# Altium integrated library NSC Switcher.IntLib: 2027 symbols (part 35 of 54)
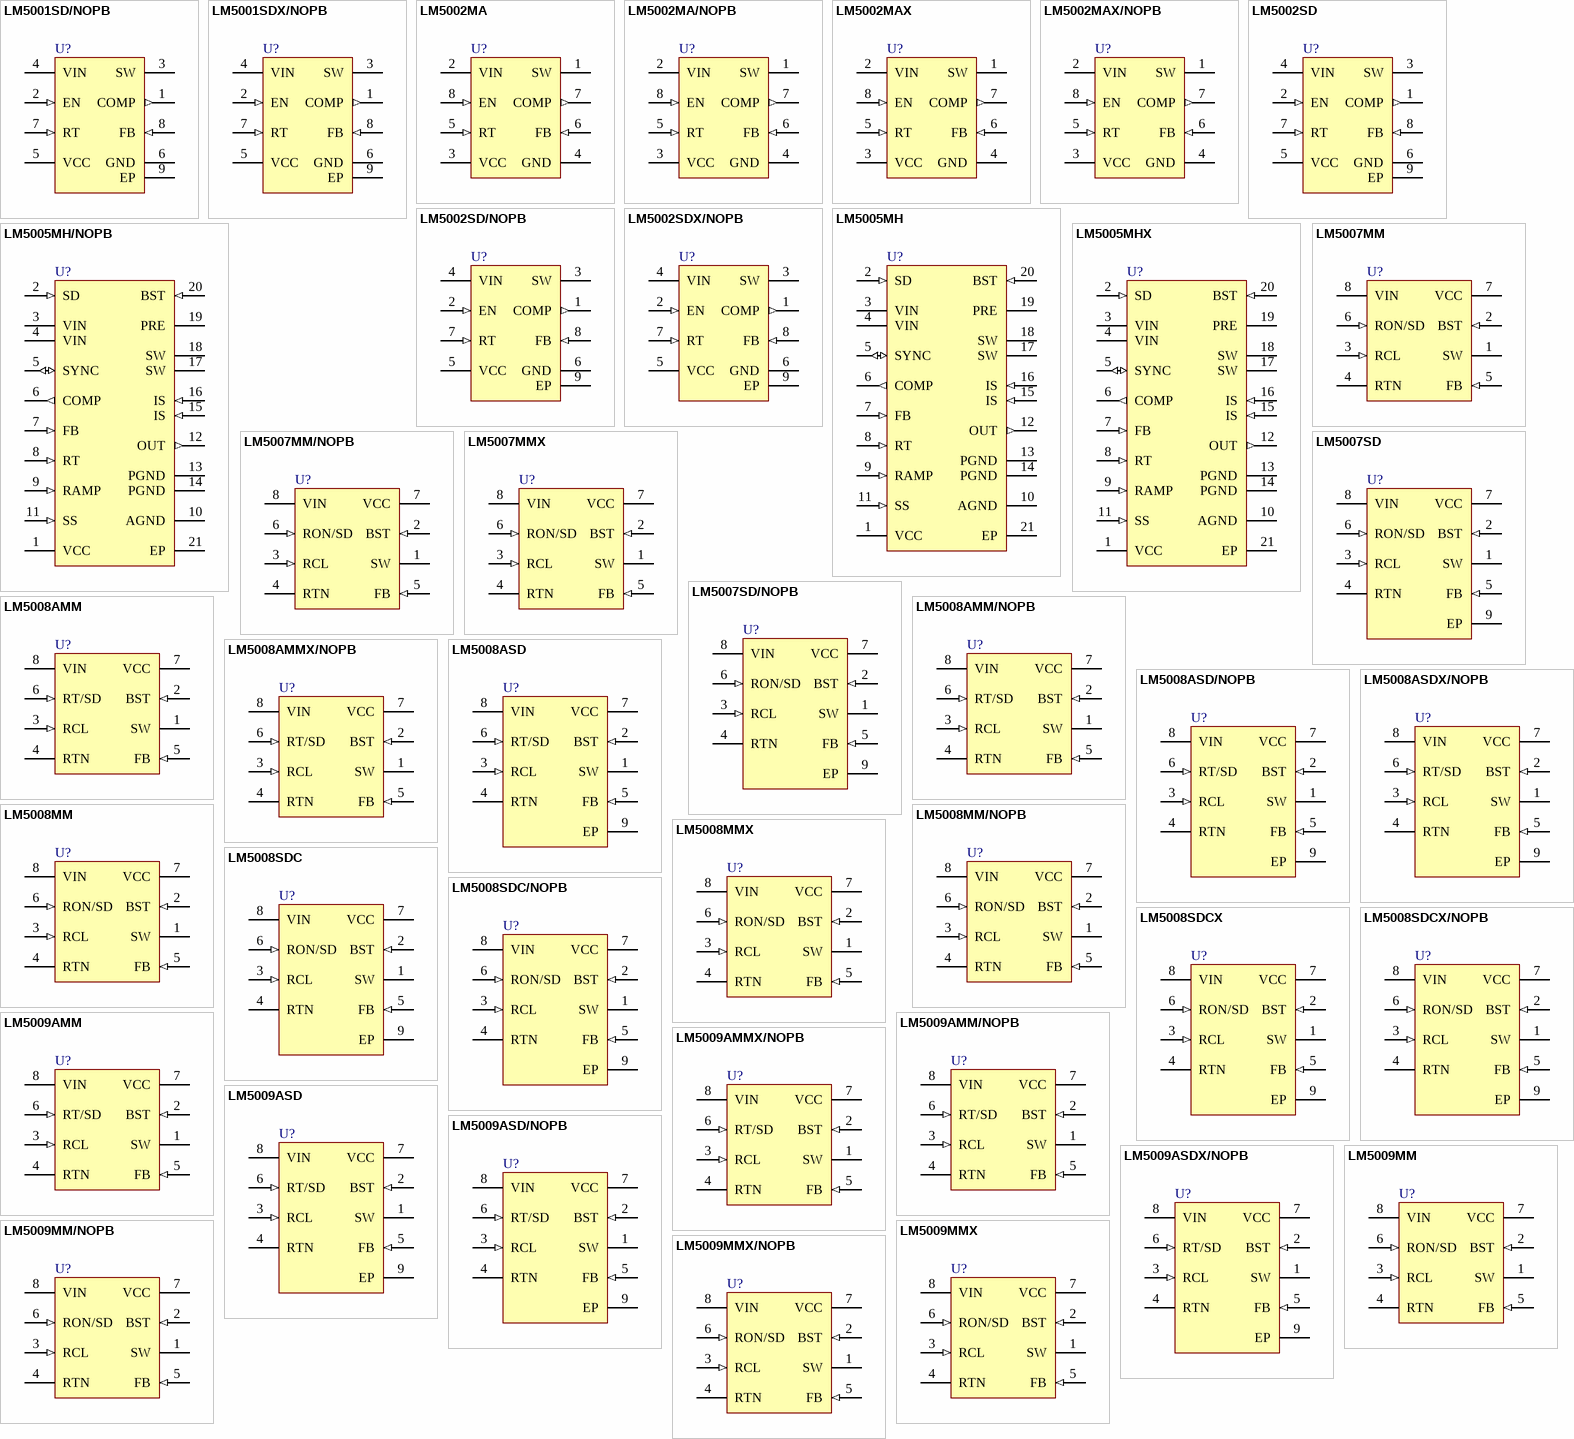
[diagram p97: symbols LM5001SD/NOPB to LM5009MMX/NOPB]

## LM5009ASD/NOPB
designator U?
100V, 150 mA Constant On-Time Buck Switching Regulator, 8-pin LLP, Pb-Free; PartNumber: LM5009ASD/NOPB; Manufacturer: National Semiconductor; PackageTopMarking: NS*UZXYTT*5009ASD; PowerWise: Y; CompType: Switcher; Published: 1-Mar-2010; DatasheetVersion: Jun-2009; PackageVersion: revA, Mar-2006; PackageReference: SDC08B; Publisher: Altium Limited; PackageDescription: LLP, Dual, 4 x 4 x 0.8mm Body, 8 Lead, 0.8mm Pitch, No Pullback, 1.98 x 3mm Exposed Pad; Supplier 1: Digi-Key; Supplier Part Number 1: LM5009ASDTR-ND; Supplier 2: Digi-Key; Supplier Part Number 2: LM5009ASDCT-ND; Supplier 3: Digi-Key; Supplier Part Number 3: LM5009ASDDKR-ND; Supplier 4: Farnell; Supplier Part Number 4: 1735801; RoHS: Y; PinCount: 8; ComponentLink1Description: LM5009A Datasheet; ComponentLink1URL: http://www.national.com/ds/LM/LM5009A.pdf; ComponentLink2Description: LM5009A Web Page; ComponentLink2URL: http://www.national.com/pf/LM/LM5009A.html; ComponentLink3Description: SDC08B Package Page; ComponentLink3URL: http://www.national.com/packaging/folders/sdc08b.html
footprint SDC08B (SON, 8-Leads, Body 4x4mm, Pitch 0.8mm, NSC Recommended)
pins: 1 SW (power), 2 BST (in), 3 RCL (in), 4 RTN (power), 5 FB (in), 6 RT/SD (in), 7 VCC (power), 8 VIN (power), 9 EP (power)

## LM5009ASDX/NOPB
designator U?
100V, 150 mA Constant On-Time Buck Switching Regulator, 8-pin LLP, Pb-Free; PartNumber: LM5009ASDX/NOPB; Manufacturer: National Semiconductor; PackageTopMarking: NS*UZXYTT*5009ASD; PowerWise: Y; CompType: Switcher; Published: 1-Mar-2010; DatasheetVersion: Jun-2009; PackageVersion: revA, Mar-2006; PackageReference: SDC08B; Publisher: Altium Limited; PackageDescription: LLP, Dual, 4 x 4 x 0.8mm Body, 8 Lead, 0.8mm Pitch, No Pullback, 1.98 x 3mm Exposed Pad; Supplier 1: Digi-Key; Supplier Part Number 1: LM5009ASDX-ND; RoHS: Y; PinCount: 8; ComponentLink1Description: LM5009A Datasheet; ComponentLink1URL: http://www.national.com/ds/LM/LM5009A.pdf; ComponentLink2Description: LM5009A Web Page; ComponentLink2URL: http://www.national.com/pf/LM/LM5009A.html; ComponentLink3Description: SDC08B Package Page; ComponentLink3URL: http://www.national.com/packaging/folders/sdc08b.html
footprint SDC08B (SON, 8-Leads, Body 4x4mm, Pitch 0.8mm, NSC Recommended)
pins: 1 SW (power), 2 BST (in), 3 RCL (in), 4 RTN (power), 5 FB (in), 6 RT/SD (in), 7 VCC (power), 8 VIN (power), 9 EP (power)

## LM5009MM
designator U?
150 mA, 100V Step-Down Switching Regulator, 8-pin MSOP; PartNumber: LM5009MM; Manufacturer: National Semiconductor; PackageTopMarking: ZXTT*SLLB; PowerWise: Y; CompType: Switcher; Published: 1-Mar-2010; DatasheetVersion: Feb-2008; PackageVersion: revF, Apr-2008; PackageReference: MUA08A; Publisher: Altium Limited; PackageDescription: MINI SOIC, .118 x .118 x .034in, 8 Lead, .0256in Pitch; Supplier 1: Farnell; Supplier Part Number 1: 1312791; RoHS: N; PinCount: 8; Code_JEDEC: MO-187-AA; ComponentLink1Description: LM5009 Datasheet; ComponentLink1URL: http://www.national.com/ds/LM/LM5009.pdf; ComponentLink2Description: LM5009 Web Page; ComponentLink2URL: http://www.national.com/pf/LM/LM5009.html; ComponentLink3Description: MUA08A Package Page; ComponentLink3URL: http://www.national.com/packaging/folders/mua08a.html
footprint MUA08A_N (TSOP, 8-Leads, Body 3x3mm, Pitch 0.65mm, IPC Medium Density)
footprint MUA08A_L (TSOP, 8-Leads, Body 3x3mm, Pitch 0.65mm, IPC High Density)
footprint MUA08A_M (TSOP, 8-Leads, Body 3x3mm, Pitch 0.65mm, IPC Low Density)
pins: 1 SW (power), 2 BST (in), 3 RCL (in), 4 RTN (power), 5 FB (in), 6 RON/SD (in), 7 VCC (power), 8 VIN (power)

## LM5009MM/NOPB
designator U?
150 mA, 100V Step-Down Switching Regulator, 8-pin MSOP, Pb-Free; PartNumber: LM5009MM/NOPB; Manufacturer: National Semiconductor; PackageTopMarking: ZXTT*SLLB; PowerWise: Y; CompType: Switcher; Published: 1-Mar-2010; DatasheetVersion: Feb-2008; PackageVersion: revF, Apr-2008; PackageReference: MUA08A; Publisher: Altium Limited; PackageDescription: MINI SOIC, .118 x .118 x .034in, 8 Lead, .0256in Pitch; Supplier 1: Digi-Key; Supplier Part Number 1: LM5009MMTR-ND; Supplier 2: Digi-Key; Supplier Part Number 2: LM5009MMCT-ND; Supplier 3: Digi-Key; Supplier Part Number 3: LM5009MMDKR-ND; Supplier 4: Farnell; Supplier Part Number 4: 1559831; RoHS: Y; PinCount: 8; Code_JEDEC: MO-187-AA; ComponentLink1Description: LM5009 Datasheet; ComponentLink1URL: http://www.national.com/ds/LM/LM5009.pdf; ComponentLink2Description: LM5009 Web Page; ComponentLink2URL: http://www.national.com/pf/LM/LM5009.html; ComponentLink3Description: MUA08A Package Page; ComponentLink3URL: http://www.national.com/packaging/folders/mua08a.html
footprint MUA08A_N (TSOP, 8-Leads, Body 3x3mm, Pitch 0.65mm, IPC Medium Density)
footprint MUA08A_L (TSOP, 8-Leads, Body 3x3mm, Pitch 0.65mm, IPC High Density)
footprint MUA08A_M (TSOP, 8-Leads, Body 3x3mm, Pitch 0.65mm, IPC Low Density)
pins: 1 SW (power), 2 BST (in), 3 RCL (in), 4 RTN (power), 5 FB (in), 6 RON/SD (in), 7 VCC (power), 8 VIN (power)

## LM5009MMX
designator U?
150 mA, 100V Step-Down Switching Regulator, 8-pin MSOP; PartNumber: LM5009MMX; Manufacturer: National Semiconductor; PackageTopMarking: ZXTT*SLLB; PowerWise: Y; CompType: Switcher; Published: 1-Mar-2010; DatasheetVersion: Feb-2008; PackageVersion: revF, Apr-2008; PackageReference: MUA08A; Publisher: Altium Limited; PackageDescription: MINI SOIC, .118 x .118 x .034in, 8 Lead, .0256in Pitch; RoHS: N; PinCount: 8; Code_JEDEC: MO-187-AA; ComponentLink1Description: LM5009 Datasheet; ComponentLink1URL: http://www.national.com/ds/LM/LM5009.pdf; ComponentLink2Description: LM5009 Web Page; ComponentLink2URL: http://www.national.com/pf/LM/LM5009.html; ComponentLink3Description: MUA08A Package Page; ComponentLink3URL: http://www.national.com/packaging/folders/mua08a.html
footprint MUA08A_N (TSOP, 8-Leads, Body 3x3mm, Pitch 0.65mm, IPC Medium Density)
footprint MUA08A_L (TSOP, 8-Leads, Body 3x3mm, Pitch 0.65mm, IPC High Density)
footprint MUA08A_M (TSOP, 8-Leads, Body 3x3mm, Pitch 0.65mm, IPC Low Density)
pins: 1 SW (power), 2 BST (in), 3 RCL (in), 4 RTN (power), 5 FB (in), 6 RON/SD (in), 7 VCC (power), 8 VIN (power)

## LM5009MMX/NOPB
designator U?
150 mA, 100V Step-Down Switching Regulator, 8-pin MSOP, Pb-Free; PartNumber: LM5009MMX/NOPB; Manufacturer: National Semiconductor; PackageTopMarking: ZXTT*SLLB; PowerWise: Y; CompType: Switcher; Published: 1-Mar-2010; DatasheetVersion: Feb-2008; PackageVersion: revF, Apr-2008; PackageReference: MUA08A; Publisher: Altium Limited; PackageDescription: MINI SOIC, .118 x .118 x .034in, 8 Lead, .0256in Pitch; Supplier 1: Digi-Key; Supplier Part Number 1: LM5009MMX-ND; RoHS: Y; PinCount: 8; Code_JEDEC: MO-187-AA; ComponentLink1Description: LM5009 Datasheet; ComponentLink1URL: http://www.national.com/ds/LM/LM5009.pdf; ComponentLink2Description: LM5009 Web Page; ComponentLink2URL: http://www.national.com/pf/LM/LM5009.html; ComponentLink3Description: MUA08A Package Page; ComponentLink3URL: http://www.national.com/packaging/folders/mua08a.html
footprint MUA08A_N (TSOP, 8-Leads, Body 3x3mm, Pitch 0.65mm, IPC Medium Density)
footprint MUA08A_L (TSOP, 8-Leads, Body 3x3mm, Pitch 0.65mm, IPC High Density)
footprint MUA08A_M (TSOP, 8-Leads, Body 3x3mm, Pitch 0.65mm, IPC Low Density)
pins: 1 SW (power), 2 BST (in), 3 RCL (in), 4 RTN (power), 5 FB (in), 6 RON/SD (in), 7 VCC (power), 8 VIN (power)

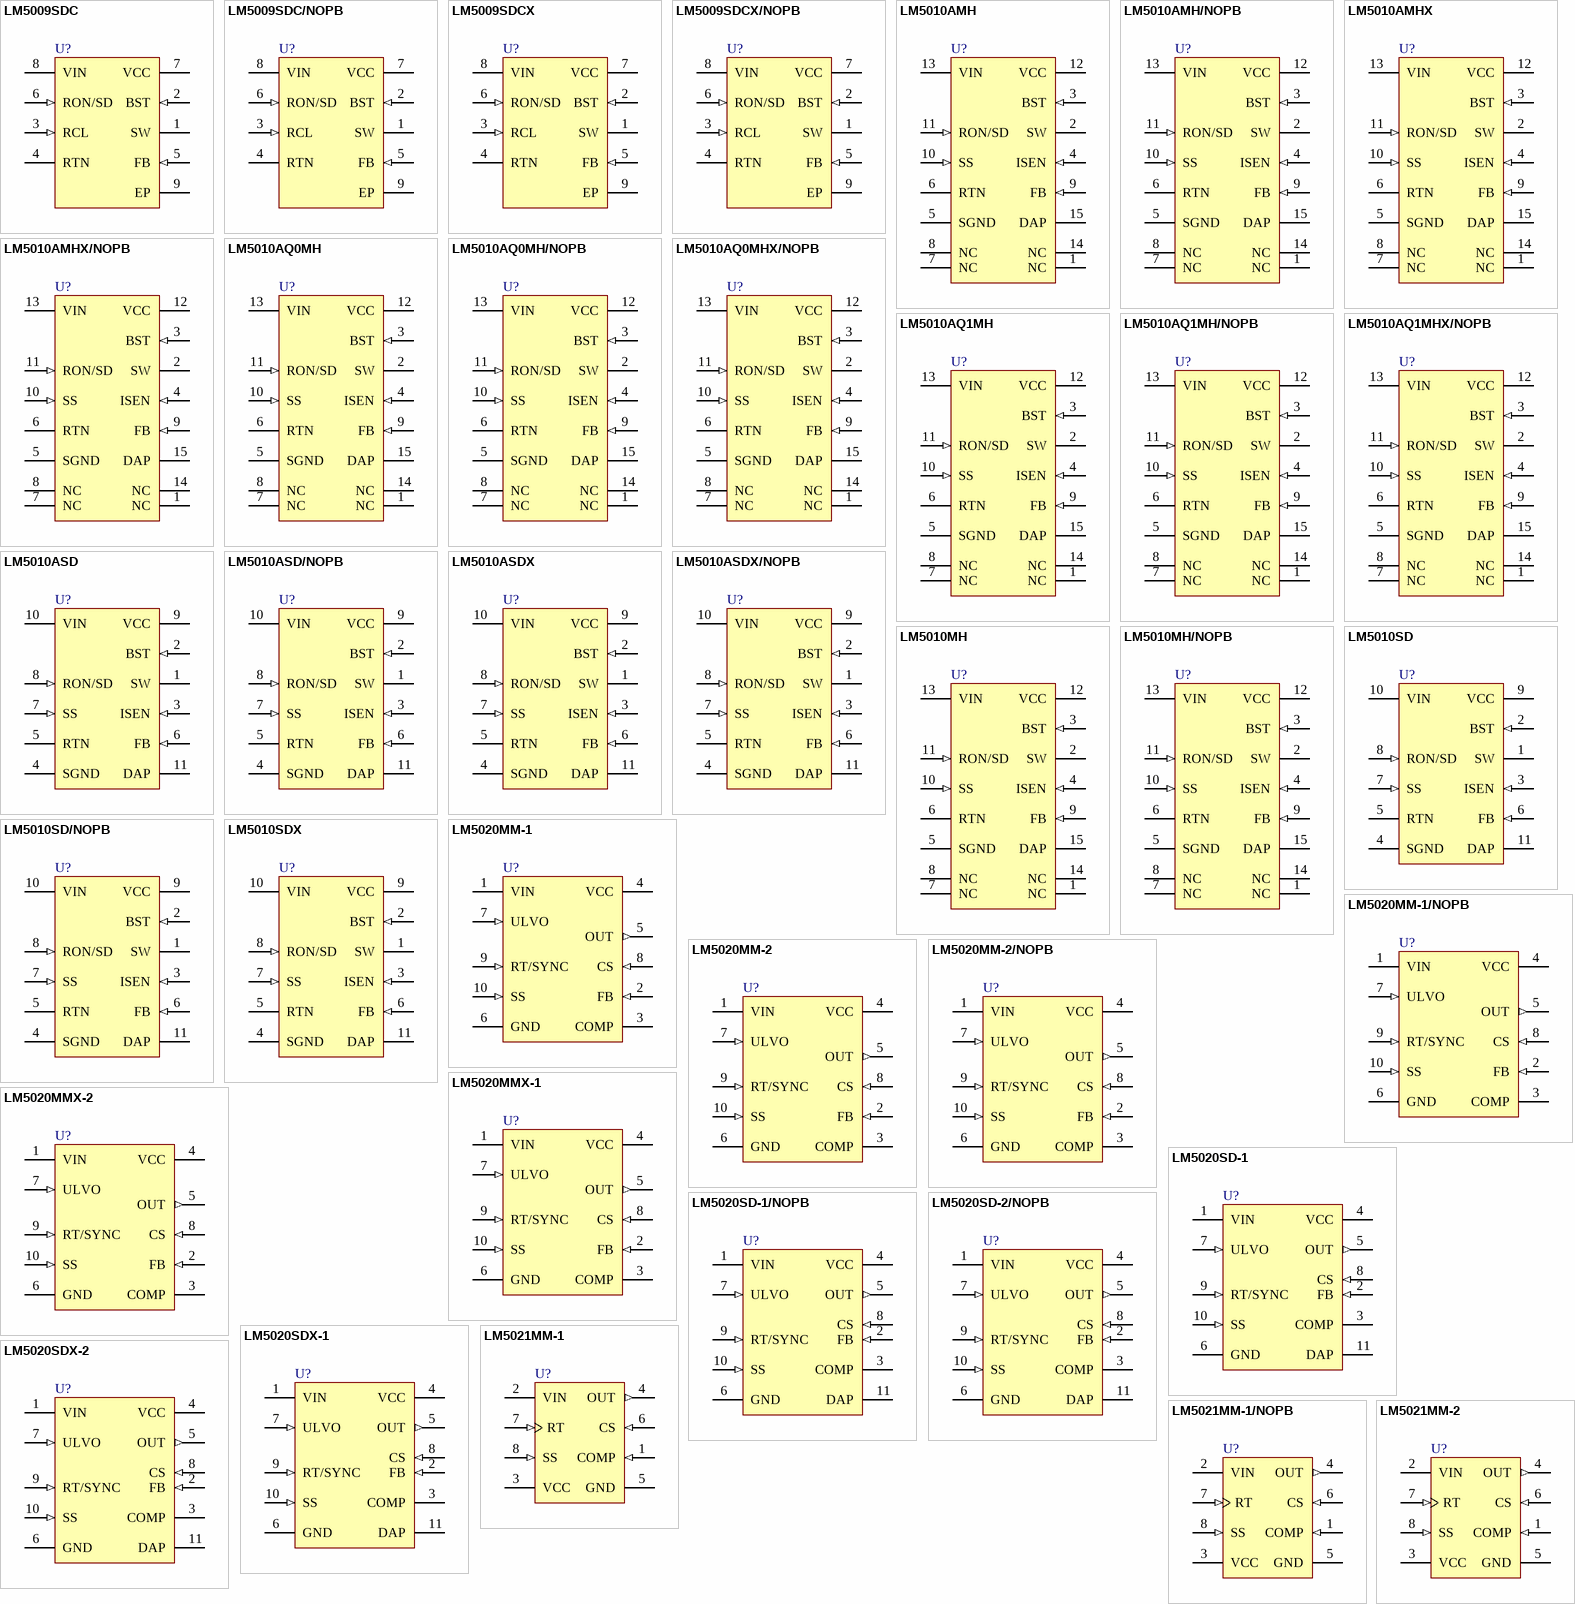
[diagram p38: symbols LM5009SDC to LM5021MM-2]

## LM5009SDC
designator U?
150 mA, 100V Step-Down Switching Regulatorr, 8-pin LLP; PartNumber: LM5009SDC; Manufacturer: National Semiconductor; PackageTopMarking: NS*UZXYTT*5009SD; PowerWise: Y; CompType: Switcher; Published: 4-Dec-2008; LatestRevisionDate: 09-Oct-2009; LatestRevisionNote: pin 6 re-named.; DatasheetVersion: Feb-2008; PackageVersion: revA, Mar-2006; PackageReference: SDC08B; Publisher: Altium Limited; PackageDescription: LLP, Dual, 4 x 4 x 0.8mm Body, 8 Lead, 0.8mm Pitch, No Pullback, 1.98 x 3mm Exposed Pad; RoHS: N; PinCount: 8; ComponentLink1Description: LM5009 Datasheet; ComponentLink1URL: http://www.national.com/ds/LM/LM5009.pdf; ComponentLink2Description: LM5009 Web Page; ComponentLink2URL: http://www.national.com/pf/LM/LM5009.html; ComponentLink3Description: SDC08B Package Page; ComponentLink3URL: http://www.national.com/packaging/folders/sdc08b.html
footprint SDC08B (SON, 8-Leads, Body 4x4mm, Pitch 0.8mm, NSC Recommended)
pins: 1 SW (power), 2 BST (in), 3 RCL (in), 4 RTN (power), 5 FB (in), 6 RON/SD (in), 7 VCC (power), 8 VIN (power), 9 EP (power)

## LM5009SDC/NOPB
designator U?
150 mA, 100V Step-Down Switching Regulator, 8-pin LLP, Pb-Free; PartNumber: LM5009SDC/NOPB; Manufacturer: National Semiconductor; PackageTopMarking: NS*UZXYTT*5009SD; PowerWise: Y; CompType: Switcher; Published: 1-Mar-2010; DatasheetVersion: Feb-2008; PackageVersion: revA, Mar-2006; PackageReference: SDC08B; Publisher: Altium Limited; PackageDescription: LLP, Dual, 4 x 4 x 0.8mm Body, 8 Lead, 0.8mm Pitch, No Pullback, 1.98 x 3mm Exposed Pad; Supplier 1: Digi-Key; Supplier Part Number 1: LM5009SDCTR-ND; Supplier 2: Digi-Key; Supplier Part Number 2: LM5009SDCCT-ND; Supplier 3: Digi-Key; Supplier Part Number 3: LM5009SDCDKR-ND; Supplier 4: Farnell; Supplier Part Number 4: 1685578; RoHS: Y; PinCount: 8; ComponentLink1Description: LM5009 Datasheet; ComponentLink1URL: http://www.national.com/ds/LM/LM5009.pdf; ComponentLink2Description: LM5009 Web Page; ComponentLink2URL: http://www.national.com/pf/LM/LM5009.html; ComponentLink3Description: SDC08B Package Page; ComponentLink3URL: http://www.national.com/packaging/folders/sdc08b.html
footprint SDC08B (SON, 8-Leads, Body 4x4mm, Pitch 0.8mm, NSC Recommended)
pins: 1 SW (power), 2 BST (in), 3 RCL (in), 4 RTN (power), 5 FB (in), 6 RON/SD (in), 7 VCC (power), 8 VIN (power), 9 EP (power)

## LM5009SDCX
designator U?
150 mA, 100V Step-Down Switching Regulator, 8-pin LLP; PartNumber: LM5009SDCX; Manufacturer: National Semiconductor; PackageTopMarking: NS*UZXYTT*5009SD; PowerWise: Y; CompType: Switcher; Published: 1-Mar-2010; DatasheetVersion: Feb-2008; PackageVersion: revA, Mar-2006; PackageReference: SDC08B; Publisher: Altium Limited; PackageDescription: LLP, Dual, 4 x 4 x 0.8mm Body, 8 Lead, 0.8mm Pitch, No Pullback, 1.98 x 3mm Exposed Pad; RoHS: N; PinCount: 8; ComponentLink1Description: LM5009 Datasheet; ComponentLink1URL: http://www.national.com/ds/LM/LM5009.pdf; ComponentLink2Description: LM5009 Web Page; ComponentLink2URL: http://www.national.com/pf/LM/LM5009.html; ComponentLink3Description: SDC08B Package Page; ComponentLink3URL: http://www.national.com/packaging/folders/sdc08b.html
footprint SDC08B (SON, 8-Leads, Body 4x4mm, Pitch 0.8mm, NSC Recommended)
pins: 1 SW (power), 2 BST (in), 3 RCL (in), 4 RTN (power), 5 FB (in), 6 RON/SD (in), 7 VCC (power), 8 VIN (power), 9 EP (power)

## LM5009SDCX/NOPB
designator U?
150 mA, 100V Step-Down Switching Regulator, 8-pin LLP, Pb-Free; PartNumber: LM5009SDCX/NOPB; Manufacturer: National Semiconductor; PackageTopMarking: NS*UZXYTT*5009SD; PowerWise: Y; CompType: Switcher; Published: 1-Mar-2010; DatasheetVersion: Feb-2008; PackageVersion: revA, Mar-2006; PackageReference: SDC08B; Publisher: Altium Limited; PackageDescription: LLP, Dual, 4 x 4 x 0.8mm Body, 8 Lead, 0.8mm Pitch, No Pullback, 1.98 x 3mm Exposed Pad; Supplier 1: Digi-Key; Supplier Part Number 1: LM5009SDCX-ND; RoHS: Y; PinCount: 8; ComponentLink1Description: LM5009 Datasheet; ComponentLink1URL: http://www.national.com/ds/LM/LM5009.pdf; ComponentLink2Description: LM5009 Web Page; ComponentLink2URL: http://www.national.com/pf/LM/LM5009.html; ComponentLink3Description: SDC08B Package Page; ComponentLink3URL: http://www.national.com/packaging/folders/sdc08b.html
footprint SDC08B (SON, 8-Leads, Body 4x4mm, Pitch 0.8mm, NSC Recommended)
pins: 1 SW (power), 2 BST (in), 3 RCL (in), 4 RTN (power), 5 FB (in), 6 RON/SD (in), 7 VCC (power), 8 VIN (power), 9 EP (power)

## LM5010AMH
designator U?
High Voltage 1A Step Down Switching Regulator, 14-pin TSSOP-EP; PartNumber: LM5010AMH; Manufacturer: National Semiconductor; PackageTopMarking: NSUZXYTT*L5010*AMH; PowerWise: N; CompType: Switcher; Published: 4-Dec-2008; DatasheetVersion: Dec-2008; PackageVersion: revA, Feb-2003; PackageReference: MXA14A; Publisher: Altium Limited; PackageDescription: Molded TSSOP, JEDEC, Exposed Pad, 5.0 x 4.4 x 0.9mm Body, 14 Lead, 0.65mm Pitch; Supplier 1: Farnell; Supplier Part Number 1: 1286762; RoHS: N; PinCount: 14; Code_JEDEC: MO-153-ABT-1; ComponentLink1Description: LM5010A Datasheet; ComponentLink1URL: http://www.national.com/ds/LM/LM5010A.pdf; ComponentLink2Description: LM5010A Web Page; ComponentLink2URL: http://www.national.com/pf/LM/LM5010A.html; ComponentLink3Description: MXA14A Package Page; ComponentLink3URL: http://www.national.com/packaging/folders/mxa14a.html
footprint MXA14A_N (TSOP, 14-Leads, Body 5x4.4mm, Pitch 0.65mm, Exposed Pad, IPC Medium Density)
footprint MXA14A_L (TSOP, 14-Leads, Body 5x4.4mm, Pitch 0.65mm, Exposed Pad, IPC High Density)
footprint MXA14A_M (TSOP, 14-Leads, Body 5x4.4mm, Pitch 0.65mm, Exposed Pad, IPC Low Density)
pins: 1 NC, 2 SW (power), 3 BST (in), 4 ISEN (in), 5 SGND (power), 6 RTN (power), 7 NC, 8 NC, 9 FB (in), 10 SS (in), 11 RON/SD (in), 12 VCC (power), 13 VIN (power), 14 NC, 15 DAP (power)

## LM5010AMH/NOPB
designator U?
High Voltage 1A Step Down Switching Regulator, 14-pin TSSOP-EP, Pb-Free; PartNumber: LM5010AMH/NOPB; Manufacturer: National Semiconductor; PackageTopMarking: NSUZXYTT*L5010*AMH; PowerWise: N; CompType: Switcher; Published: 1-Mar-2010; DatasheetVersion: Dec-2008; PackageVersion: revA, Feb-2003; PackageReference: MXA14A; Publisher: Altium Limited; PackageDescription: Molded TSSOP, JEDEC, Exposed Pad, 5.0 x 4.4 x 0.9mm Body, 14 Lead, 0.65mm Pitch; Supplier 1: Digi-Key; Supplier Part Number 1: LM5010AMH-ND; Supplier 2: Farnell; Supplier Part Number 2: 1654357; RoHS: Y; PinCount: 14; Code_JEDEC: MO-153-ABT-1; ComponentLink1Description: LM5010A Datasheet; ComponentLink1URL: http://www.national.com/ds/LM/LM5010A.pdf; ComponentLink2Description: LM5010A Web Page; ComponentLink2URL: http://www.national.com/pf/LM/LM5010A.html; ComponentLink3Description: MXA14A Package Page; ComponentLink3URL: http://www.national.com/packaging/folders/mxa14a.html
footprint MXA14A_N (TSOP, 14-Leads, Body 5x4.4mm, Pitch 0.65mm, Exposed Pad, IPC Medium Density)
footprint MXA14A_L (TSOP, 14-Leads, Body 5x4.4mm, Pitch 0.65mm, Exposed Pad, IPC High Density)
footprint MXA14A_M (TSOP, 14-Leads, Body 5x4.4mm, Pitch 0.65mm, Exposed Pad, IPC Low Density)
pins: 1 NC, 2 SW (power), 3 BST (in), 4 ISEN (in), 5 SGND (power), 6 RTN (power), 7 NC, 8 NC, 9 FB (in), 10 SS (in), 11 RON/SD (in), 12 VCC (power), 13 VIN (power), 14 NC, 15 DAP (power)

## LM5010AMHX
designator U?
High Voltage 1A Step Down Switching Regulator, 14-pin TSSOP-EP; PartNumber: LM5010AMHX; Manufacturer: National Semiconductor; PackageTopMarking: NSUZXYTT*L5010*AMH; PowerWise: N; CompType: Switcher; Published: 1-Mar-2010; DatasheetVersion: Dec-2008; PackageVersion: revA, Feb-2003; PackageReference: MXA14A; Publisher: Altium Limited; PackageDescription: Molded TSSOP, JEDEC, Exposed Pad, 5.0 x 4.4 x 0.9mm Body, 14 Lead, 0.65mm Pitch; RoHS: N; PinCount: 14; Code_JEDEC: MO-153-ABT-1; ComponentLink1Description: LM5010A Datasheet; ComponentLink1URL: http://www.national.com/ds/LM/LM5010A.pdf; ComponentLink2Description: LM5010A Web Page; ComponentLink2URL: http://www.national.com/pf/LM/LM5010A.html; ComponentLink3Description: MXA14A Package Page; ComponentLink3URL: http://www.national.com/packaging/folders/mxa14a.html
footprint MXA14A_N (TSOP, 14-Leads, Body 5x4.4mm, Pitch 0.65mm, Exposed Pad, IPC Medium Density)
footprint MXA14A_L (TSOP, 14-Leads, Body 5x4.4mm, Pitch 0.65mm, Exposed Pad, IPC High Density)
footprint MXA14A_M (TSOP, 14-Leads, Body 5x4.4mm, Pitch 0.65mm, Exposed Pad, IPC Low Density)
pins: 1 NC, 2 SW (power), 3 BST (in), 4 ISEN (in), 5 SGND (power), 6 RTN (power), 7 NC, 8 NC, 9 FB (in), 10 SS (in), 11 RON/SD (in), 12 VCC (power), 13 VIN (power), 14 NC, 15 DAP (power)

## LM5010AMHX/NOPB
designator U?
High Voltage 1A Step Down Switching Regulator, 14-pin TSSOP-EP, Pb-Free; PartNumber: LM5010AMHX/NOPB; Manufacturer: National Semiconductor; PackageTopMarking: NSUZXYTT*L5010*AMH; PowerWise: N; CompType: Switcher; Published: 1-Mar-2010; DatasheetVersion: Dec-2008; PackageVersion: revA, Feb-2003; PackageReference: MXA14A; Publisher: Altium Limited; PackageDescription: Molded TSSOP, JEDEC, Exposed Pad, 5.0 x 4.4 x 0.9mm Body, 14 Lead, 0.65mm Pitch; Supplier 1: Digi-Key; Supplier Part Number 1: LM5010AMHX-ND; RoHS: Y; PinCount: 14; Code_JEDEC: MO-153-ABT-1; ComponentLink1Description: LM5010A Datasheet; ComponentLink1URL: http://www.national.com/ds/LM/LM5010A.pdf; ComponentLink2Description: LM5010A Web Page; ComponentLink2URL: http://www.national.com/pf/LM/LM5010A.html; ComponentLink3Description: MXA14A Package Page; ComponentLink3URL: http://www.national.com/packaging/folders/mxa14a.html
footprint MXA14A_N (TSOP, 14-Leads, Body 5x4.4mm, Pitch 0.65mm, Exposed Pad, IPC Medium Density)
footprint MXA14A_L (TSOP, 14-Leads, Body 5x4.4mm, Pitch 0.65mm, Exposed Pad, IPC High Density)
footprint MXA14A_M (TSOP, 14-Leads, Body 5x4.4mm, Pitch 0.65mm, Exposed Pad, IPC Low Density)
pins: 1 NC, 2 SW (power), 3 BST (in), 4 ISEN (in), 5 SGND (power), 6 RTN (power), 7 NC, 8 NC, 9 FB (in), 10 SS (in), 11 RON/SD (in), 12 VCC (power), 13 VIN (power), 14 NC, 15 DAP (power)

## LM5010AQ0MH
designator U?
High Voltage 1A Step Down Switching Regulator, 14-pin TSSOP-EP; PartNumber: LM5010AQ0MH; Manufacturer: National Semiconductor; PackageTopMarking: NSUZXYTT*L5010A*Q0MH; PowerWise: N; CompType: Switcher; Published: 29-May-2009; DatasheetVersion: Dec-2008; PackageVersion: revA, Feb-2003; PackageReference: MXA14A; Publisher: Altium Limited; PackageDescription: Molded TSSOP, JEDEC, Exposed Pad, 5.0 x 4.4 x 0.9mm Body, 14 Lead, 0.65mm Pitch; Supplier 1: Farnell; Supplier Part Number 1: 1689546; RoHS: Y; PinCount: 14; Code_JEDEC: MO-153-ABT-1; ComponentLink1Description: LM5010A Datasheet; ComponentLink1URL: http://www.national.com/ds/LM/LM5010A.pdf; ComponentLink2Description: LM5010A Web Page; ComponentLink2URL: http://www.national.com/pf/LM/LM5010A.html; ComponentLink3Description: MXA14A Package Page; ComponentLink3URL: http://www.national.com/packaging/folders/mxa14a.html
footprint MXA14A_N (TSOP, 14-Leads, Body 5x4.4mm, Pitch 0.65mm, Exposed Pad, IPC Medium Density)
footprint MXA14A_L (TSOP, 14-Leads, Body 5x4.4mm, Pitch 0.65mm, Exposed Pad, IPC High Density)
footprint MXA14A_M (TSOP, 14-Leads, Body 5x4.4mm, Pitch 0.65mm, Exposed Pad, IPC Low Density)
pins: 1 NC, 2 SW (power), 3 BST (in), 4 ISEN (in), 5 SGND (power), 6 RTN (power), 7 NC, 8 NC, 9 FB (in), 10 SS (in), 11 RON/SD (in), 12 VCC (power), 13 VIN (power), 14 NC, 15 DAP (power)

## LM5010AQ0MH/NOPB
designator U?
High Voltage 1A Step Down Switching Regulator, 14-pin TSSOP-EP, Pb-Free; PartNumber: LM5010AQ0MH/NOPB; Manufacturer: National Semiconductor; PackageTopMarking: NSUZXYTT*L5010A*Q0MH; PowerWise: N; CompType: Switcher; Published: 1-Mar-2010; DatasheetVersion: Dec-2008; PackageVersion: revA, Feb-2003; PackageReference: MXA14A; Publisher: Altium Limited; PackageDescription: Molded TSSOP, JEDEC, Exposed Pad, 5.0 x 4.4 x 0.9mm Body, 14 Lead, 0.65mm Pitch; Supplier 1: Digi-Key; Supplier Part Number 1: LM5010AQ0MH-ND; RoHS: Y; PinCount: 14; Code_JEDEC: MO-153-ABT-1; ComponentLink1Description: LM5010A Datasheet; ComponentLink1URL: http://www.national.com/ds/LM/LM5010A.pdf; ComponentLink2Description: LM5010A Web Page; ComponentLink2URL: http://www.national.com/pf/LM/LM5010A.html; ComponentLink3Description: MXA14A Package Page; ComponentLink3URL: http://www.national.com/packaging/folders/mxa14a.html
footprint MXA14A_N (TSOP, 14-Leads, Body 5x4.4mm, Pitch 0.65mm, Exposed Pad, IPC Medium Density)
footprint MXA14A_L (TSOP, 14-Leads, Body 5x4.4mm, Pitch 0.65mm, Exposed Pad, IPC High Density)
footprint MXA14A_M (TSOP, 14-Leads, Body 5x4.4mm, Pitch 0.65mm, Exposed Pad, IPC Low Density)
pins: 1 NC, 2 SW (power), 3 BST (in), 4 ISEN (in), 5 SGND (power), 6 RTN (power), 7 NC, 8 NC, 9 FB (in), 10 SS (in), 11 RON/SD (in), 12 VCC (power), 13 VIN (power), 14 NC, 15 DAP (power)

## LM5010AQ0MHX/NOPB
designator U?
High Voltage 1A Step Down Switching Regulator, 14-pin TSSOP-EP, Pb-Free; PartNumber: LM5010AQ0MHX/NOPB; Manufacturer: National Semiconductor; PackageTopMarking: NSUZXYTT*L5010A*Q0MH; PowerWise: N; CompType: Switcher; Published: 1-Mar-2010; DatasheetVersion: Dec-2008; PackageVersion: revA, Feb-2003; PackageReference: MXA14A; Publisher: Altium Limited; PackageDescription: Molded TSSOP, JEDEC, Exposed Pad, 5.0 x 4.4 x 0.9mm Body, 14 Lead, 0.65mm Pitch; Supplier 1: Digi-Key; Supplier Part Number 1: LM5010AQ0MHX-ND; RoHS: Y; PinCount: 14; Code_JEDEC: MO-153-ABT-1; ComponentLink1Description: LM5010A Datasheet; ComponentLink1URL: http://www.national.com/ds/LM/LM5010A.pdf; ComponentLink2Description: LM5010A Web Page; ComponentLink2URL: http://www.national.com/pf/LM/LM5010A.html; ComponentLink3Description: MXA14A Package Page; ComponentLink3URL: http://www.national.com/packaging/folders/mxa14a.html
footprint MXA14A_N (TSOP, 14-Leads, Body 5x4.4mm, Pitch 0.65mm, Exposed Pad, IPC Medium Density)
footprint MXA14A_L (TSOP, 14-Leads, Body 5x4.4mm, Pitch 0.65mm, Exposed Pad, IPC High Density)
footprint MXA14A_M (TSOP, 14-Leads, Body 5x4.4mm, Pitch 0.65mm, Exposed Pad, IPC Low Density)
pins: 1 NC, 2 SW (power), 3 BST (in), 4 ISEN (in), 5 SGND (power), 6 RTN (power), 7 NC, 8 NC, 9 FB (in), 10 SS (in), 11 RON/SD (in), 12 VCC (power), 13 VIN (power), 14 NC, 15 DAP (power)

## LM5010AQ1MH
designator U?
High Voltage 1A Step Down Switching Regulator, 14-pin TSSOP-EP; PartNumber: LM5010AQ1MH; Manufacturer: National Semiconductor; PackageTopMarking: NSUZXYTT*L5010A*Q1MH; PowerWise: N; CompType: Switcher; Published: 29-May-2009; DatasheetVersion: Dec-2008; PackageVersion: revA, Feb-2003; PackageReference: MXA14A; Publisher: Altium Limited; PackageDescription: Molded TSSOP, JEDEC, Exposed Pad, 5.0 x 4.4 x 0.9mm Body, 14 Lead, 0.65mm Pitch; RoHS: Y; PinCount: 14; Code_JEDEC: MO-153-ABT-1; ComponentLink1Description: LM5010A Datasheet; ComponentLink1URL: http://www.national.com/ds/LM/LM5010A.pdf; ComponentLink2Description: LM5010A Web Page; ComponentLink2URL: http://www.national.com/pf/LM/LM5010A.html; ComponentLink3Description: MXA14A Package Page; ComponentLink3URL: http://www.national.com/packaging/folders/mxa14a.html
footprint MXA14A_N (TSOP, 14-Leads, Body 5x4.4mm, Pitch 0.65mm, Exposed Pad, IPC Medium Density)
footprint MXA14A_L (TSOP, 14-Leads, Body 5x4.4mm, Pitch 0.65mm, Exposed Pad, IPC High Density)
footprint MXA14A_M (TSOP, 14-Leads, Body 5x4.4mm, Pitch 0.65mm, Exposed Pad, IPC Low Density)
pins: 1 NC, 2 SW (power), 3 BST (in), 4 ISEN (in), 5 SGND (power), 6 RTN (power), 7 NC, 8 NC, 9 FB (in), 10 SS (in), 11 RON/SD (in), 12 VCC (power), 13 VIN (power), 14 NC, 15 DAP (power)

## LM5010AQ1MH/NOPB
designator U?
High Voltage 1A Step Down Switching Regulator, 14-pin TSSOP-EP, Pb-Free; PartNumber: LM5010AQ1MH/NOPB; Manufacturer: National Semiconductor; PackageTopMarking: NSUZXYTT*L5010A*Q1MH; PowerWise: N; CompType: Switcher; Published: 1-Mar-2010; DatasheetVersion: Dec-2008; PackageVersion: revA, Feb-2003; PackageReference: MXA14A; Publisher: Altium Limited; PackageDescription: Molded TSSOP, JEDEC, Exposed Pad, 5.0 x 4.4 x 0.9mm Body, 14 Lead, 0.65mm Pitch; Supplier 1: Digi-Key; Supplier Part Number 1: LM5010AQ1MH-ND; Supplier 2: Farnell; Supplier Part Number 2: 1690912; RoHS: Y; PinCount: 14; Code_JEDEC: MO-153-ABT-1; ComponentLink1Description: LM5010A Datasheet; ComponentLink1URL: http://www.national.com/ds/LM/LM5010A.pdf; ComponentLink2Description: LM5010A Web Page; ComponentLink2URL: http://www.national.com/pf/LM/LM5010A.html; ComponentLink3Description: MXA14A Package Page; ComponentLink3URL: http://www.national.com/packaging/folders/mxa14a.html
footprint MXA14A_N (TSOP, 14-Leads, Body 5x4.4mm, Pitch 0.65mm, Exposed Pad, IPC Medium Density)
footprint MXA14A_L (TSOP, 14-Leads, Body 5x4.4mm, Pitch 0.65mm, Exposed Pad, IPC High Density)
footprint MXA14A_M (TSOP, 14-Leads, Body 5x4.4mm, Pitch 0.65mm, Exposed Pad, IPC Low Density)
pins: 1 NC, 2 SW (power), 3 BST (in), 4 ISEN (in), 5 SGND (power), 6 RTN (power), 7 NC, 8 NC, 9 FB (in), 10 SS (in), 11 RON/SD (in), 12 VCC (power), 13 VIN (power), 14 NC, 15 DAP (power)

## LM5010AQ1MHX/NOPB
designator U?
High Voltage 1A Step Down Switching Regulator, 14-pin TSSOP-EP, Pb-Free; PartNumber: LM5010AQ1MHX/NOPB; Manufacturer: National Semiconductor; PackageTopMarking: NSUZXYTT*L5010A*Q1MH; PowerWise: N; CompType: Switcher; Published: 1-Mar-2010; DatasheetVersion: Dec-2008; PackageVersion: revA, Feb-2003; PackageReference: MXA14A; Publisher: Altium Limited; PackageDescription: Molded TSSOP, JEDEC, Exposed Pad, 5.0 x 4.4 x 0.9mm Body, 14 Lead, 0.65mm Pitch; Supplier 1: Digi-Key; Supplier Part Number 1: LM5010AQ1MHX-ND; RoHS: Y; PinCount: 14; Code_JEDEC: MO-153-ABT-1; ComponentLink1Description: LM5010A Datasheet; ComponentLink1URL: http://www.national.com/ds/LM/LM5010A.pdf; ComponentLink2Description: LM5010A Web Page; ComponentLink2URL: http://www.national.com/pf/LM/LM5010A.html; ComponentLink3Description: MXA14A Package Page; ComponentLink3URL: http://www.national.com/packaging/folders/mxa14a.html
footprint MXA14A_N (TSOP, 14-Leads, Body 5x4.4mm, Pitch 0.65mm, Exposed Pad, IPC Medium Density)
footprint MXA14A_L (TSOP, 14-Leads, Body 5x4.4mm, Pitch 0.65mm, Exposed Pad, IPC High Density)
footprint MXA14A_M (TSOP, 14-Leads, Body 5x4.4mm, Pitch 0.65mm, Exposed Pad, IPC Low Density)
pins: 1 NC, 2 SW (power), 3 BST (in), 4 ISEN (in), 5 SGND (power), 6 RTN (power), 7 NC, 8 NC, 9 FB (in), 10 SS (in), 11 RON/SD (in), 12 VCC (power), 13 VIN (power), 14 NC, 15 DAP (power)

## LM5010ASD
designator U?
High Voltage 1A Step Down Switching Regulator, 10-pin LLP; PartNumber: LM5010ASD; Manufacturer: National Semiconductor; PackageTopMarking: NS*UZXYTT*L00065B; PowerWise: N; CompType: Switcher; Published: 4-Dec-2008; DatasheetVersion: Dec-2008; PackageVersion: revA, May-2003; PackageReference: SDC10A; Publisher: Altium Limited; PackageDescription: LLP, Plastic, Dual, 4 x 4 x 0.8mm Body, 10 Lead, 0.8mm Pitch, No Pullback; RoHS: N; PinCount: 10; ComponentLink1Description: LM5010A Datasheet; ComponentLink1URL: http://www.national.com/ds/LM/LM5010A.pdf; ComponentLink2Description: LM5010A Web Page; ComponentLink2URL: http://www.national.com/pf/LM/LM5010A.html; ComponentLink3Description: SDC10A Package Page; ComponentLink3URL: http://www.national.com/packaging/folders/sdc10a.html
footprint SDC10A (SON, 10-Leads, Body 4x4 mm, Pitch 0.8mm, NSC Recommended)
pins: 1 SW (power), 2 BST (in), 3 ISEN (in), 4 SGND (power), 5 RTN (power), 6 FB (in), 7 SS (in), 8 RON/SD (in), 9 VCC (power), 10 VIN (power), 11 DAP (power)

## LM5010ASD/NOPB
designator U?
High Voltage 1A Step Down Switching Regulator, 10-pin LLP, Pb-Free; PartNumber: LM5010ASD/NOPB; Manufacturer: National Semiconductor; PackageTopMarking: NS*UZXYTT*L00065B; PowerWise: N; CompType: Switcher; Published: 1-Mar-2010; DatasheetVersion: Dec-2008; PackageVersion: revA, May-2003; PackageReference: SDC10A; Publisher: Altium Limited; PackageDescription: LLP, Plastic, Dual, 4 x 4 x 0.8mm Body, 10 Lead, 0.8mm Pitch, No Pullback; Supplier 1: Digi-Key; Supplier Part Number 1: LM5010ASDTR-ND; Supplier 2: Digi-Key; Supplier Part Number 2: LM5010ASDCT-ND; Supplier 3: Digi-Key; Supplier Part Number 3: LM5010ASDDKR-ND; Supplier 4: Farnell; Supplier Part Number 4: 1685556; RoHS: Y; PinCount: 10; ComponentLink1Description: LM5010A Datasheet; ComponentLink1URL: http://www.national.com/ds/LM/LM5010A.pdf; ComponentLink2Description: LM5010A Web Page; ComponentLink2URL: http://www.national.com/pf/LM/LM5010A.html; ComponentLink3Description: SDC10A Package Page; ComponentLink3URL: http://www.national.com/packaging/folders/sdc10a.html
footprint SDC10A (SON, 10-Leads, Body 4x4 mm, Pitch 0.8mm, NSC Recommended)
pins: 1 SW (power), 2 BST (in), 3 ISEN (in), 4 SGND (power), 5 RTN (power), 6 FB (in), 7 SS (in), 8 RON/SD (in), 9 VCC (power), 10 VIN (power), 11 DAP (power)

## LM5010ASDX
designator U?
High Voltage 1A Step Down Switching Regulator, 10-pin LLP; PartNumber: LM5010ASDX; Manufacturer: National Semiconductor; PackageTopMarking: NS*UZXYTT*L00065B; PowerWise: N; CompType: Switcher; Published: 1-Mar-2010; DatasheetVersion: Dec-2008; PackageVersion: revA, May-2003; PackageReference: SDC10A; Publisher: Altium Limited; PackageDescription: LLP, Plastic, Dual, 4 x 4 x 0.8mm Body, 10 Lead, 0.8mm Pitch, No Pullback; RoHS: N; PinCount: 10; ComponentLink1Description: LM5010A Datasheet; ComponentLink1URL: http://www.national.com/ds/LM/LM5010A.pdf; ComponentLink2Description: LM5010A Web Page; ComponentLink2URL: http://www.national.com/pf/LM/LM5010A.html; ComponentLink3Description: SDC10A Package Page; ComponentLink3URL: http://www.national.com/packaging/folders/sdc10a.html
footprint SDC10A (SON, 10-Leads, Body 4x4 mm, Pitch 0.8mm, NSC Recommended)
pins: 1 SW (power), 2 BST (in), 3 ISEN (in), 4 SGND (power), 5 RTN (power), 6 FB (in), 7 SS (in), 8 RON/SD (in), 9 VCC (power), 10 VIN (power), 11 DAP (power)

## LM5010ASDX/NOPB
designator U?
High Voltage 1A Step Down Switching Regulator, 10-pin LLP, Pb-Free; PartNumber: LM5010ASDX/NOPB; Manufacturer: National Semiconductor; PackageTopMarking: NS*UZXYTT*L00065B; PowerWise: N; CompType: Switcher; Published: 1-Mar-2010; DatasheetVersion: Dec-2008; PackageVersion: revA, May-2003; PackageReference: SDC10A; Publisher: Altium Limited; PackageDescription: LLP, Plastic, Dual, 4 x 4 x 0.8mm Body, 10 Lead, 0.8mm Pitch, No Pullback; Supplier 1: Digi-Key; Supplier Part Number 1: LM5010ASDX-ND; RoHS: Y; PinCount: 10; ComponentLink1Description: LM5010A Datasheet; ComponentLink1URL: http://www.national.com/ds/LM/LM5010A.pdf; ComponentLink2Description: LM5010A Web Page; ComponentLink2URL: http://www.national.com/pf/LM/LM5010A.html; ComponentLink3Description: SDC10A Package Page; ComponentLink3URL: http://www.national.com/packaging/folders/sdc10a.html
footprint SDC10A (SON, 10-Leads, Body 4x4 mm, Pitch 0.8mm, NSC Recommended)
pins: 1 SW (power), 2 BST (in), 3 ISEN (in), 4 SGND (power), 5 RTN (power), 6 FB (in), 7 SS (in), 8 RON/SD (in), 9 VCC (power), 10 VIN (power), 11 DAP (power)

## LM5010MH
designator U?
High Voltage 1A Step Down Switching Regulator, 14-pin TSSOP-EP; PartNumber: LM5010MH; Manufacturer: National Semiconductor; PackageTopMarking: NSUZXYTT*L5010*MH; PowerWise: N; CompType: Switcher; Published: 4-Dec-2008; DatasheetVersion: Feb-2008; PackageVersion: revA, Feb-2003; PackageReference: MXA14A; Publisher: Altium Limited; PackageDescription: Molded TSSOP, JEDEC, Exposed Pad, 5.0 x 4.4 x 0.9mm Body, 14 Lead, 0.65mm Pitch; RoHS: N; PinCount: 14; Code_JEDEC: MO-153-ABT-1; ComponentLink1Description: LM5010 Datasheet; ComponentLink1URL: http://www.national.com/ds/LM/LM5010.pdf; ComponentLink2Description: LM5010 Web Page; ComponentLink2URL: http://www.national.com/pf/LM/LM5010.html; ComponentLink3Description: MXA14A Package Page; ComponentLink3URL: http://www.national.com/packaging/folders/mxa14a.html
footprint MXA14A_N (TSOP, 14-Leads, Body 5x4.4mm, Pitch 0.65mm, Exposed Pad, IPC Medium Density)
footprint MXA14A_L (TSOP, 14-Leads, Body 5x4.4mm, Pitch 0.65mm, Exposed Pad, IPC High Density)
footprint MXA14A_M (TSOP, 14-Leads, Body 5x4.4mm, Pitch 0.65mm, Exposed Pad, IPC Low Density)
pins: 1 NC, 2 SW (power), 3 BST (in), 4 ISEN (in), 5 SGND (power), 6 RTN (power), 7 NC, 8 NC, 9 FB (in), 10 SS (in), 11 RON/SD (in), 12 VCC (power), 13 VIN (power), 14 NC, 15 DAP (power)

## LM5010MH/NOPB
designator U?
High Voltage 1A Step Down Switching Regulator, 14-pin TSSOP-EP, Pb-Free; PartNumber: LM5010MH/NOPB; Manufacturer: National Semiconductor; PackageTopMarking: NSUZXYTT*L5010*MH; PowerWise: N; CompType: Switcher; Published: 1-Mar-2010; DatasheetVersion: Feb-2008; PackageVersion: revA, Feb-2003; PackageReference: MXA14A; Publisher: Altium Limited; PackageDescription: Molded TSSOP, JEDEC, Exposed Pad, 5.0 x 4.4 x 0.9mm Body, 14 Lead, 0.65mm Pitch; Supplier 1: Digi-Key; Supplier Part Number 1: LM5010MH-ND; Supplier 2: Farnell; Supplier Part Number 2: 1685658; RoHS: Y; PinCount: 14; Code_JEDEC: MO-153-ABT-1; ComponentLink1Description: LM5010 Datasheet; ComponentLink1URL: http://www.national.com/ds/LM/LM5010.pdf; ComponentLink2Description: LM5010 Web Page; ComponentLink2URL: http://www.national.com/pf/LM/LM5010.html; ComponentLink3Description: MXA14A Package Page; ComponentLink3URL: http://www.national.com/packaging/folders/mxa14a.html
footprint MXA14A_N (TSOP, 14-Leads, Body 5x4.4mm, Pitch 0.65mm, Exposed Pad, IPC Medium Density)
footprint MXA14A_L (TSOP, 14-Leads, Body 5x4.4mm, Pitch 0.65mm, Exposed Pad, IPC High Density)
footprint MXA14A_M (TSOP, 14-Leads, Body 5x4.4mm, Pitch 0.65mm, Exposed Pad, IPC Low Density)
pins: 1 NC, 2 SW (power), 3 BST (in), 4 ISEN (in), 5 SGND (power), 6 RTN (power), 7 NC, 8 NC, 9 FB (in), 10 SS (in), 11 RON/SD (in), 12 VCC (power), 13 VIN (power), 14 NC, 15 DAP (power)

## LM5010SD
designator U?
High Voltage 1A Step Down Switching Regulator, 10-pin LLP; PartNumber: LM5010SD; Manufacturer: National Semiconductor; PackageTopMarking: NS*UZXYTT*L00057B; PowerWise: N; CompType: Switcher; Published: 4-Dec-2008; DatasheetVersion: Feb-2008; PackageVersion: revA, May-2003; PackageReference: SDC10A; Publisher: Altium Limited; PackageDescription: LLP, Plastic, Dual, 4 x 4 x 0.8mm Body, 10 Lead, 0.8mm Pitch, No Pullback; Supplier 1: Farnell; Supplier Part Number 1: 1008257; RoHS: N; PinCount: 10; ComponentLink1Description: LM5010 Datasheet; ComponentLink1URL: http://www.national.com/ds/LM/LM5010.pdf; ComponentLink2Description: LM5010 Web Page; ComponentLink2URL: http://www.national.com/pf/LM/LM5010.html; ComponentLink3Description: SDC10A Package Page; ComponentLink3URL: http://www.national.com/packaging/folders/sdc10a.html
footprint SDC10A (SON, 10-Leads, Body 4x4 mm, Pitch 0.8mm, NSC Recommended)
pins: 1 SW (power), 2 BST (in), 3 ISEN (in), 4 SGND (power), 5 RTN (power), 6 FB (in), 7 SS (in), 8 RON/SD (in), 9 VCC (power), 10 VIN (power), 11 DAP (power)

## LM5010SD/NOPB
designator U?
High Voltage 1A Step Down Switching Regulator, 10-pin LLP, Pb-Free; PartNumber: LM5010SD/NOPB; Manufacturer: National Semiconductor; PackageTopMarking: NS*UZXYTT*L00057B; PowerWise: N; CompType: Switcher; Published: 1-Mar-2010; DatasheetVersion: Feb-2008; PackageVersion: revA, May-2003; PackageReference: SDC10A; Publisher: Altium Limited; PackageDescription: LLP, Plastic, Dual, 4 x 4 x 0.8mm Body, 10 Lead, 0.8mm Pitch, No Pullback; Supplier 1: Digi-Key; Supplier Part Number 1: LM5010SDTR-ND; Supplier 2: Digi-Key; Supplier Part Number 2: LM5010SDCT-ND; Supplier 3: Digi-Key; Supplier Part Number 3: LM5010SDDKR-ND; Supplier 4: Farnell; Supplier Part Number 4: 1559510; RoHS: Y; PinCount: 10; ComponentLink1Description: LM5010 Datasheet; ComponentLink1URL: http://www.national.com/ds/LM/LM5010.pdf; ComponentLink2Description: LM5010 Web Page; ComponentLink2URL: http://www.national.com/pf/LM/LM5010.html; ComponentLink3Description: SDC10A Package Page; ComponentLink3URL: http://www.national.com/packaging/folders/sdc10a.html
footprint SDC10A (SON, 10-Leads, Body 4x4 mm, Pitch 0.8mm, NSC Recommended)
pins: 1 SW (power), 2 BST (in), 3 ISEN (in), 4 SGND (power), 5 RTN (power), 6 FB (in), 7 SS (in), 8 RON/SD (in), 9 VCC (power), 10 VIN (power), 11 DAP (power)

## LM5010SDX
designator U?
High Voltage 1A Step Down Switching Regulator, 10-pin LLP; PartNumber: LM5010SDX; Manufacturer: National Semiconductor; PackageTopMarking: NS*UZXYTT*L00057B; PowerWise: N; CompType: Switcher; Published: 1-Mar-2010; DatasheetVersion: Feb-2008; PackageVersion: revA, May-2003; PackageReference: SDC10A; Publisher: Altium Limited; PackageDescription: LLP, Plastic, Dual, 4 x 4 x 0.8mm Body, 10 Lead, 0.8mm Pitch, No Pullback; RoHS: N; PinCount: 10; ComponentLink1Description: LM5010 Datasheet; ComponentLink1URL: http://www.national.com/ds/LM/LM5010.pdf; ComponentLink2Description: LM5010 Web Page; ComponentLink2URL: http://www.national.com/pf/LM/LM5010.html; ComponentLink3Description: SDC10A Package Page; ComponentLink3URL: http://www.national.com/packaging/folders/sdc10a.html
footprint SDC10A (SON, 10-Leads, Body 4x4 mm, Pitch 0.8mm, NSC Recommended)
pins: 1 SW (power), 2 BST (in), 3 ISEN (in), 4 SGND (power), 5 RTN (power), 6 FB (in), 7 SS (in), 8 RON/SD (in), 9 VCC (power), 10 VIN (power), 11 DAP (power)

## LM5020MM-1
designator U?
100V Current Mode PWM Controller, 10-pin MSOP; PartNumber: LM5020MM-1; Manufacturer: National Semiconductor; PackageTopMarking: ZXTT*SBLB; PowerWise: Y; CompType: Switcher; Published: 4-Dec-2008; DatasheetVersion: Apr-2006; PackageVersion: revB, Jul-2003; PackageReference: MUB10A; Publisher: Altium Limited; PackageDescription: Mini-SO, Molded, .118 x .118 x .034in Body, 10 Lead, .0197in Pitch; Supplier 1: Farnell; Supplier Part Number 1: 8181730; RoHS: N; PinCount: 10; Code_JEDEC: MO-187-BA; ComponentLink1Description: LM5020 Datasheet; ComponentLink1URL: http://www.national.com/ds/LM/LM5020.pdf; ComponentLink2Description: LM5020 Web Page; ComponentLink2URL: http://www.national.com/pf/LM/LM5020.html; ComponentLink3Description: MUB10A Package Page; ComponentLink3URL: http://www.national.com/packaging/folders/mub10a.html
footprint MUB10A_N (TSSOP, 10-Leads, Body 3x3mm, Pitch 0.5mm, IPC Medium Density)
footprint MUB10A_L (TSSOP, 10-Leads, Body 3x3mm, Pitch 0.5mm, IPC High Density)
footprint MUB10A_M (TSSOP, 10-Leads, Body 3x3mm, Pitch 0.5mm, IPC Low Density)
pins: 1 VIN (power), 2 FB (in), 3 COMP, 4 VCC (power), 5 OUT (out), 6 GND (power), 7 ULVO (in), 8 CS (in), 9 RT/SYNC (in), 10 SS (in)

## LM5020MM-1/NOPB
designator U?
100V Current Mode PWM Controller, 10-pin MSOP, Pb-Free; PartNumber: LM5020MM-1/NOPB; Manufacturer: National Semiconductor; PackageTopMarking: ZXTT*SBLB; PowerWise: Y; CompType: Switcher; Published: 1-Mar-2010; DatasheetVersion: Apr-2006; PackageVersion: revB, Jul-2003; PackageReference: MUB10A; Publisher: Altium Limited; PackageDescription: Mini-SO, Molded, .118 x .118 x .034in Body, 10 Lead, .0197in Pitch; Supplier 1: Digi-Key; Supplier Part Number 1: LM5020MM-1TR-ND; Supplier 2: Digi-Key; Supplier Part Number 2: LM5020MM-1CT-ND; Supplier 3: Digi-Key; Supplier Part Number 3: LM5020MM-1DKR-ND; Supplier 4: Farnell; Supplier Part Number 4: 1496183; RoHS: Y; PinCount: 10; Code_JEDEC: MO-187-BA; ComponentLink1Description: LM5020 Datasheet; ComponentLink1URL: http://www.national.com/ds/LM/LM5020.pdf; ComponentLink2Description: LM5020 Web Page; ComponentLink2URL: http://www.national.com/pf/LM/LM5020.html; ComponentLink3Description: MUB10A Package Page; ComponentLink3URL: http://www.national.com/packaging/folders/mub10a.html
footprint MUB10A_N (TSSOP, 10-Leads, Body 3x3mm, Pitch 0.5mm, IPC Medium Density)
footprint MUB10A_L (TSSOP, 10-Leads, Body 3x3mm, Pitch 0.5mm, IPC High Density)
footprint MUB10A_M (TSSOP, 10-Leads, Body 3x3mm, Pitch 0.5mm, IPC Low Density)
pins: 1 VIN (power), 2 FB (in), 3 COMP, 4 VCC (power), 5 OUT (out), 6 GND (power), 7 ULVO (in), 8 CS (in), 9 RT/SYNC (in), 10 SS (in)

## LM5020MM-2
designator U?
100V Current Mode PWM Controller, 10-pin MSOP; PartNumber: LM5020MM-2; Manufacturer: National Semiconductor; PackageTopMarking: ZXTT*SBNB; PowerWise: Y; CompType: Switcher; Published: 4-Dec-2008; DatasheetVersion: Apr-2006; PackageVersion: revB, Jul-2003; PackageReference: MUB10A; Publisher: Altium Limited; PackageDescription: Mini-SO, Molded, .118 x .118 x .034in Body, 10 Lead, .0197in Pitch; Supplier 1: Farnell; Supplier Part Number 1: 8181748; RoHS: N; PinCount: 10; Code_JEDEC: MO-187-BA; ComponentLink1Description: LM5020 Datasheet; ComponentLink1URL: http://www.national.com/ds/LM/LM5020.pdf; ComponentLink2Description: LM5020 Web Page; ComponentLink2URL: http://www.national.com/pf/LM/LM5020.html; ComponentLink3Description: MUB10A Package Page; ComponentLink3URL: http://www.national.com/packaging/folders/mub10a.html
footprint MUB10A_N (TSSOP, 10-Leads, Body 3x3mm, Pitch 0.5mm, IPC Medium Density)
footprint MUB10A_L (TSSOP, 10-Leads, Body 3x3mm, Pitch 0.5mm, IPC High Density)
footprint MUB10A_M (TSSOP, 10-Leads, Body 3x3mm, Pitch 0.5mm, IPC Low Density)
pins: 1 VIN (power), 2 FB (in), 3 COMP, 4 VCC (power), 5 OUT (out), 6 GND (power), 7 ULVO (in), 8 CS (in), 9 RT/SYNC (in), 10 SS (in)

## LM5020MM-2/NOPB
designator U?
100V Current Mode PWM Controller, 10-pin MSOP, Pb-Free; PartNumber: LM5020MM-2/NOPB; Manufacturer: National Semiconductor; PackageTopMarking: ZXTT*SBNB; PowerWise: Y; CompType: Switcher; Published: 1-Mar-2010; DatasheetVersion: Apr-2006; PackageVersion: revB, Jul-2003; PackageReference: MUB10A; Publisher: Altium Limited; PackageDescription: Mini-SO, Molded, .118 x .118 x .034in Body, 10 Lead, .0197in Pitch; Supplier 1: Digi-Key; Supplier Part Number 1: LM5020MM-2TR-ND; Supplier 2: Digi-Key; Supplier Part Number 2: LM5020MM-2CT-ND; Supplier 3: Digi-Key; Supplier Part Number 3: LM5020MM-2DKR-ND; RoHS: Y; PinCount: 10; Code_JEDEC: MO-187-BA; ComponentLink1Description: LM5020 Datasheet; ComponentLink1URL: http://www.national.com/ds/LM/LM5020.pdf; ComponentLink2Description: LM5020 Web Page; ComponentLink2URL: http://www.national.com/pf/LM/LM5020.html; ComponentLink3Description: MUB10A Package Page; ComponentLink3URL: http://www.national.com/packaging/folders/mub10a.html
footprint MUB10A_N (TSSOP, 10-Leads, Body 3x3mm, Pitch 0.5mm, IPC Medium Density)
footprint MUB10A_L (TSSOP, 10-Leads, Body 3x3mm, Pitch 0.5mm, IPC High Density)
footprint MUB10A_M (TSSOP, 10-Leads, Body 3x3mm, Pitch 0.5mm, IPC Low Density)
pins: 1 VIN (power), 2 FB (in), 3 COMP, 4 VCC (power), 5 OUT (out), 6 GND (power), 7 ULVO (in), 8 CS (in), 9 RT/SYNC (in), 10 SS (in)

## LM5020MMX-1
designator U?
100V Current Mode PWM Controller, 10-pin MSOP; PartNumber: LM5020MMX-1; Manufacturer: National Semiconductor; PackageTopMarking: ZXTT*SBLB; PowerWise: Y; CompType: Switcher; Published: 1-Mar-2010; DatasheetVersion: Apr-2006; PackageVersion: revB, Jul-2003; PackageReference: MUB10A; Publisher: Altium Limited; PackageDescription: Mini-SO, Molded, .118 x .118 x .034in Body, 10 Lead, .0197in Pitch; RoHS: N; PinCount: 10; Code_JEDEC: MO-187-BA; ComponentLink1Description: LM5020 Datasheet; ComponentLink1URL: http://www.national.com/ds/LM/LM5020.pdf; ComponentLink2Description: LM5020 Web Page; ComponentLink2URL: http://www.national.com/pf/LM/LM5020.html; ComponentLink3Description: MUB10A Package Page; ComponentLink3URL: http://www.national.com/packaging/folders/mub10a.html
footprint MUB10A_N (TSSOP, 10-Leads, Body 3x3mm, Pitch 0.5mm, IPC Medium Density)
footprint MUB10A_L (TSSOP, 10-Leads, Body 3x3mm, Pitch 0.5mm, IPC High Density)
footprint MUB10A_M (TSSOP, 10-Leads, Body 3x3mm, Pitch 0.5mm, IPC Low Density)
pins: 1 VIN (power), 2 FB (in), 3 COMP, 4 VCC (power), 5 OUT (out), 6 GND (power), 7 ULVO (in), 8 CS (in), 9 RT/SYNC (in), 10 SS (in)

## LM5020MMX-2
designator U?
100V Current Mode PWM Controller, 10-pin MSOP; PartNumber: LM5020MMX-2; Manufacturer: National Semiconductor; PackageTopMarking: ZXTT*SBNB; PowerWise: Y; CompType: Switcher; Published: 1-Mar-2010; DatasheetVersion: Apr-2006; PackageVersion: revB, Jul-2003; PackageReference: MUB10A; Publisher: Altium Limited; PackageDescription: Mini-SO, Molded, .118 x .118 x .034in Body, 10 Lead, .0197in Pitch; RoHS: N; PinCount: 10; Code_JEDEC: MO-187-BA; ComponentLink1Description: LM5020 Datasheet; ComponentLink1URL: http://www.national.com/ds/LM/LM5020.pdf; ComponentLink2Description: LM5020 Web Page; ComponentLink2URL: http://www.national.com/pf/LM/LM5020.html; ComponentLink3Description: MUB10A Package Page; ComponentLink3URL: http://www.national.com/packaging/folders/mub10a.html
footprint MUB10A_N (TSSOP, 10-Leads, Body 3x3mm, Pitch 0.5mm, IPC Medium Density)
footprint MUB10A_L (TSSOP, 10-Leads, Body 3x3mm, Pitch 0.5mm, IPC High Density)
footprint MUB10A_M (TSSOP, 10-Leads, Body 3x3mm, Pitch 0.5mm, IPC Low Density)
pins: 1 VIN (power), 2 FB (in), 3 COMP, 4 VCC (power), 5 OUT (out), 6 GND (power), 7 ULVO (in), 8 CS (in), 9 RT/SYNC (in), 10 SS (in)

## LM5020SD-1
designator U?
100V Current Mode PWM Controller, 10-pin LLP; PartNumber: LM5020SD-1; Manufacturer: National Semiconductor; PackageTopMarking: NS*UZXYTT*5020-1; PowerWise: Y; CompType: Switcher; Published: 4-Dec-2008; DatasheetVersion: Apr-2006; PackageVersion: revA, May-2003; PackageReference: SDC10A; Publisher: Altium Limited; PackageDescription: LLP, Plastic, Dual, 4 x 4 x 0.8mm Body, 10 Lead, 0.8mm Pitch, No Pullback; RoHS: N; PinCount: 10; ComponentLink1Description: LM5020 Datasheet; ComponentLink1URL: http://www.national.com/ds/LM/LM5020.pdf; ComponentLink2Description: LM5020 Web Page; ComponentLink2URL: http://www.national.com/pf/LM/LM5020.html; ComponentLink3Description: SDC10A Package Page; ComponentLink3URL: http://www.national.com/packaging/folders/sdc10a.html
footprint SDC10A (SON, 10-Leads, Body 4x4 mm, Pitch 0.8mm, NSC Recommended)
pins: 1 VIN (power), 2 FB (in), 3 COMP, 4 VCC (power), 5 OUT (out), 6 GND (power), 7 ULVO (in), 8 CS (in), 9 RT/SYNC (in), 10 SS (in), 11 DAP (power)

## LM5020SD-1/NOPB
designator U?
100V Current Mode PWM Controller, 10-pin LLP, Pb-Free; PartNumber: LM5020SD-1/NOPB; Manufacturer: National Semiconductor; PackageTopMarking: NS*UZXYTT*5020-1; PowerWise: Y; CompType: Switcher; Published: 1-Mar-2010; DatasheetVersion: Apr-2006; PackageVersion: revA, May-2003; PackageReference: SDC10A; Publisher: Altium Limited; PackageDescription: LLP, Plastic, Dual, 4 x 4 x 0.8mm Body, 10 Lead, 0.8mm Pitch, No Pullback; Supplier 1: Digi-Key; Supplier Part Number 1: LM5020SD-1TR-ND; Supplier 2: Digi-Key; Supplier Part Number 2: LM5020SD-1CT-ND; Supplier 3: Digi-Key; Supplier Part Number 3: LM5020SD-1DKR-ND; RoHS: Y; PinCount: 10; ComponentLink1Description: LM5020 Datasheet; ComponentLink1URL: http://www.national.com/ds/LM/LM5020.pdf; ComponentLink2Description: LM5020 Web Page; ComponentLink2URL: http://www.national.com/pf/LM/LM5020.html; ComponentLink3Description: SDC10A Package Page; ComponentLink3URL: http://www.national.com/packaging/folders/sdc10a.html
footprint SDC10A (SON, 10-Leads, Body 4x4 mm, Pitch 0.8mm, NSC Recommended)
pins: 1 VIN (power), 2 FB (in), 3 COMP, 4 VCC (power), 5 OUT (out), 6 GND (power), 7 ULVO (in), 8 CS (in), 9 RT/SYNC (in), 10 SS (in), 11 DAP (power)

## LM5020SD-2/NOPB
designator U?
100V Current Mode PWM Controller, 10-pin LLP, Pb-Free; PartNumber: LM5020SD-2/NOPB; Manufacturer: National Semiconductor; PackageTopMarking: NS*UZXYTT*5020-2; PowerWise: Y; CompType: Switcher; Published: 1-Mar-2010; DatasheetVersion: Apr-2006; PackageVersion: revA, May-2003; PackageReference: SDC10A; Publisher: Altium Limited; PackageDescription: LLP, Plastic, Dual, 4 x 4 x 0.8mm Body, 10 Lead, 0.8mm Pitch, No Pullback; Supplier 1: Digi-Key; Supplier Part Number 1: LM5020SD-2TR-ND; Supplier 2: Digi-Key; Supplier Part Number 2: LM5020SD-2CT-ND; Supplier 3: Digi-Key; Supplier Part Number 3: LM5020SD-2DKR-ND; RoHS: Y; PinCount: 10; ComponentLink1Description: LM5020 Datasheet; ComponentLink1URL: http://www.national.com/ds/LM/LM5020.pdf; ComponentLink2Description: LM5020 Web Page; ComponentLink2URL: http://www.national.com/pf/LM/LM5020.html; ComponentLink3Description: SDC10A Package Page; ComponentLink3URL: http://www.national.com/packaging/folders/sdc10a.html
footprint SDC10A (SON, 10-Leads, Body 4x4 mm, Pitch 0.8mm, NSC Recommended)
pins: 1 VIN (power), 2 FB (in), 3 COMP, 4 VCC (power), 5 OUT (out), 6 GND (power), 7 ULVO (in), 8 CS (in), 9 RT/SYNC (in), 10 SS (in), 11 DAP (power)

## LM5020SDX-1
designator U?
100V Current Mode PWM Controller, 10-pin LLP; PartNumber: LM5020SDX-1; Manufacturer: National Semiconductor; PackageTopMarking: NS*UZXYTT*5020-1; PowerWise: Y; CompType: Switcher; Published: 1-Mar-2010; DatasheetVersion: Apr-2006; PackageVersion: revA, May-2003; PackageReference: SDC10A; Publisher: Altium Limited; PackageDescription: LLP, Plastic, Dual, 4 x 4 x 0.8mm Body, 10 Lead, 0.8mm Pitch, No Pullback; RoHS: N; PinCount: 10; ComponentLink1Description: LM5020 Datasheet; ComponentLink1URL: http://www.national.com/ds/LM/LM5020.pdf; ComponentLink2Description: LM5020 Web Page; ComponentLink2URL: http://www.national.com/pf/LM/LM5020.html; ComponentLink3Description: SDC10A Package Page; ComponentLink3URL: http://www.national.com/packaging/folders/sdc10a.html
footprint SDC10A (SON, 10-Leads, Body 4x4 mm, Pitch 0.8mm, NSC Recommended)
pins: 1 VIN (power), 2 FB (in), 3 COMP, 4 VCC (power), 5 OUT (out), 6 GND (power), 7 ULVO (in), 8 CS (in), 9 RT/SYNC (in), 10 SS (in), 11 DAP (power)

## LM5020SDX-2
designator U?
100V Current Mode PWM Controller, 10-pin LLP; PartNumber: LM5020SDX-2; Manufacturer: National Semiconductor; PackageTopMarking: NS*UZXYTT*5020-2; PowerWise: Y; CompType: Switcher; Published: 1-Mar-2010; DatasheetVersion: Apr-2006; PackageVersion: revA, May-2003; PackageReference: SDC10A; Publisher: Altium Limited; PackageDescription: LLP, Plastic, Dual, 4 x 4 x 0.8mm Body, 10 Lead, 0.8mm Pitch, No Pullback; RoHS: N; PinCount: 10; ComponentLink1Description: LM5020 Datasheet; ComponentLink1URL: http://www.national.com/ds/LM/LM5020.pdf; ComponentLink2Description: LM5020 Web Page; ComponentLink2URL: http://www.national.com/pf/LM/LM5020.html; ComponentLink3Description: SDC10A Package Page; ComponentLink3URL: http://www.national.com/packaging/folders/sdc10a.html
footprint SDC10A (SON, 10-Leads, Body 4x4 mm, Pitch 0.8mm, NSC Recommended)
pins: 1 VIN (power), 2 FB (in), 3 COMP, 4 VCC (power), 5 OUT (out), 6 GND (power), 7 ULVO (in), 8 CS (in), 9 RT/SYNC (in), 10 SS (in), 11 DAP (power)